# Altium footprint library TXdispatcherBoard.PcbLib: 8 footprints
Each footprint in its own frame and in the unit in brackets; x right, y up, seen from the top. Pads: shape width x height; smd on the part's side, far side on the other; paste and mask are expansions set on the pad; w line width, h text height; cw(c..) or ccw(c..) is an arc to the next point about the centre after c.
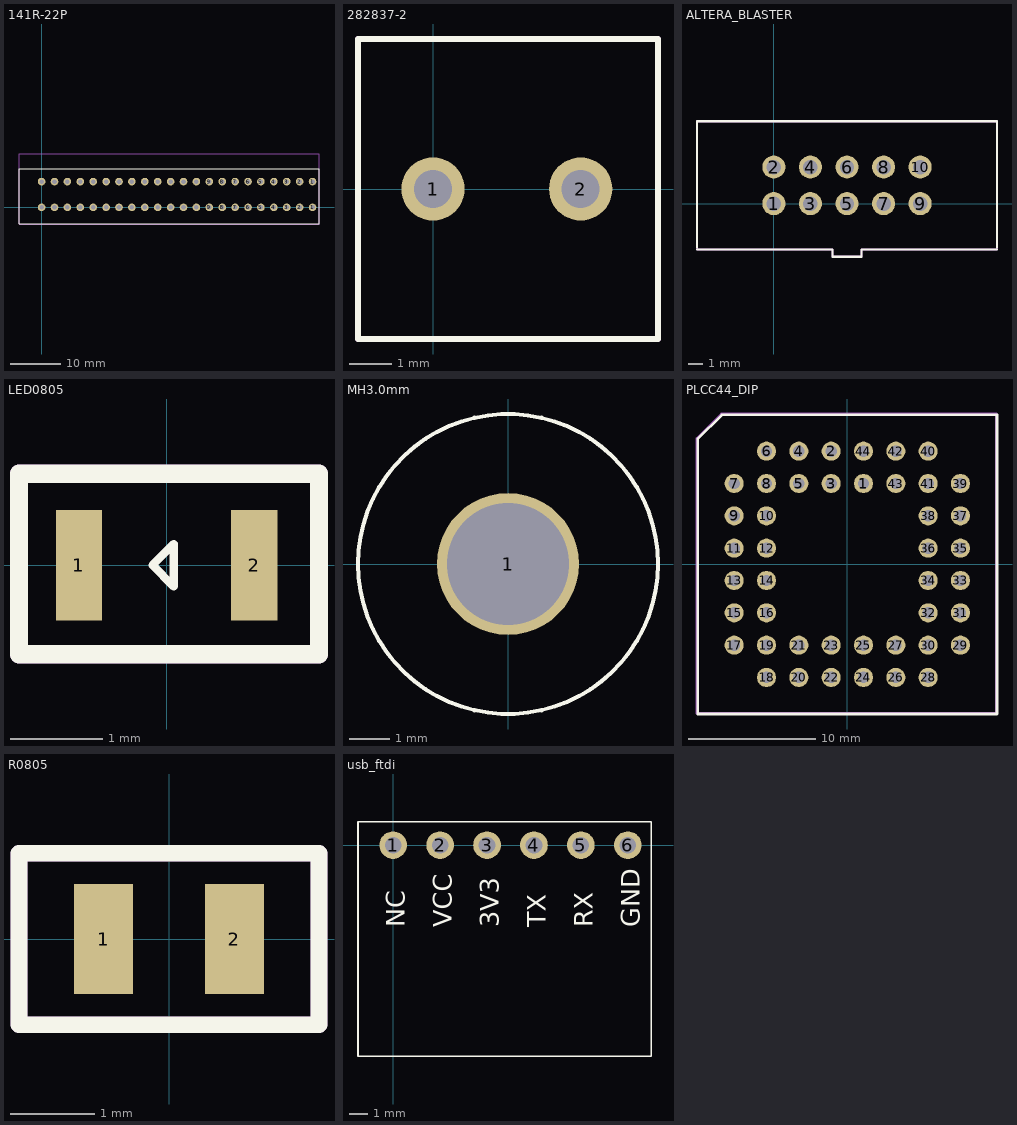
[diagram p0: the footprints below, top view; thin cyan lines are the x and y axes]

## 141R-22P [mm]
pads (44):
  round 1.5 hole 0.9: 1(53.34,0) 1(53.34,5.08) 2(50.8,0) 2(50.8,5.08) 3(48.26,0) 3(48.26,5.08) 4(45.72,0) 4(45.72,5.08) 5(43.18,0) 5(43.18,5.08) 6(40.64,0) 6(40.64,5.08) 7(38.1,0) 7(38.1,5.08) 8(35.56,0) 8(35.56,5.08) 9(33.02,0) 9(33.02,5.08) 10(30.48,0) 10(30.48,5.08) 11(27.94,0) 11(27.94,5.08) 12(25.4,0) 12(25.4,5.08) 13(22.86,0) 13(22.86,5.08) 14(20.32,0) 14(20.32,5.08) 15(17.78,0) 15(17.78,5.08) 16(15.24,0) 16(15.24,5.08) 17(12.7,0) 17(12.7,5.08) 18(10.16,0) 18(10.16,5.08) 19(7.62,0) 19(7.62,5.08) 20(5.08,0) 20(5.08,5.08) 21(2.54,0) 21(2.54,5.08) 22(0,0) 22(0,5.08)
Top Overlay:
  lines w0.09: -4.445,-3.175 -4.445,7.62 54.61,7.62 54.61,-3.175 -4.445,-3.175
Assembly:
  circle w0.2: c53.34,5.08 r0.359
  lines w0.09: -4.445,-3.302 54.61,-3.302 54.61,10.541 -4.445,10.541 -4.445,-3.302
  text "'.Designator'" at 22.098,2.286 h0.7
3D body "User Library-DG141R-5-2_54.STEP": height 12.61, standoff -3.49, extent 33.882,-2.99 49.022,10.61
3D body "User Library-DG141R-5-2_54.STEP": height 12.61, standoff -3.49, extent 21.182,-2.99 36.322,10.61
3D body "User Library-DG141R-5-2_54.STEP": height 12.61, standoff -3.49, extent -4.218,-2.99 10.922,10.61
3D body "User Library-DG141R-2-2_54.STEP": height 12.61, standoff -3.49, extent 46.532,-2.997 54.052,10.603
3D body "User Library-DG141R-5-2_54.STEP": height 12.61, standoff -3.49, extent 8.482,-2.99 23.622,10.61
3D body: height 0.25, standoff -16.1, extent 33.882,-5.08 33.882,-5.08

## 282837-2 [mm]
pads (2):
  round 1.5 hole 0.9: 1(0,0) 2(3.5,0)
Top Overlay:
  lines w0.152: -1.778,-3.556 5.334,-3.556 5.334,3.556 -1.778,3.556 -1.778,-3.556
Assembly:
  circle w0.2: c0,0 r0.359
  lines w0.152: -1.778,-3.556 -1.778,3.556 5.334,3.556 5.334,-3.556 -1.778,-3.556
  text "'.Designator'" at 1.27,-0.254 h0.7
3D body "User Library-dinkle-ED350V-02P.STEP": height 9.2, standoff -2.5, extent -1.722,-3.371 5.278,3.429

## ALTERA_BLASTER [mm]
pads (10):
  round 1.6 hole 1: 1(0,0) 2(0,2.54) 3(2.54,0) 4(2.54,2.54) 5(5.08,0) 6(5.08,2.54) 7(7.62,0) 8(7.62,2.54) 9(10.16,0) 10(10.16,2.54)
Top Overlay:
  lines w0.152: -5.334,-3.175 4.064,-3.175 4.064,-3.683 6.096,-3.683 6.096,-3.175 15.494,-3.175 ; -5.334,-3.048 -5.334,5.715 15.494,5.715 15.494,-3.048
Assembly:
  circle w0.2: c0,0 r0.18
  lines w0.152: -5.334,-3.175 4.064,-3.175 4.064,-3.683 6.096,-3.683 6.096,-3.175 15.494,-3.175 15.494,5.715 -5.334,5.715 -5.334,-3.175
  text "'.Designator'" at 0.18,0 h1
3D body "User Library-BoxHeader_2R5W_254P_00D.STEP": height 9.11, standoff -3.09, extent -5.207,-3.13 15.393,5.67

## LED0805 [mm]
pads (2):
  rect 0.5x1.2 smd: 1(-0.95,0) 2(0.95,0)
Top Overlay:
  lines w0.09: -0.152,0 0.076,-0.229 0.076,0.229 ; -0.152,0 0.076,0.229 ; -0.152,0 0.076,0.229
  lines w0.2: -1.6,-0.965 1.651,-0.965 1.651,0.991 -1.6,0.991 -1.6,-0.965
Assembly:
  lines w0.2: -1.6,-0.965 1.651,-0.965 1.651,0.991 -1.6,0.991 -1.6,-0.965
  text "'.Designator'" at -1.092,-0.406 h0.7
3D body "led_0805.step": height 1.1, standoff 0, extent -1.01,-0.625 1.01,0.625

## MH3.0mm [mm] "MHNP 3.2mm"
pads (1):
  round 3.5 hole 3 unplated mask+0.05: 1(0,0)
Top Overlay:
  circle w0.1: c0,0 r3.7

## PLCC44_DIP [mm]
pads (44):
  round 1.5 hole 0.9: 1(1.27,6.35) 2(-1.27,8.89) 3(-1.27,6.35) 4(-3.81,8.89) 5(-3.81,6.35) 6(-6.35,8.89) 7(-8.89,6.35) 8(-6.35,6.35) 9(-8.89,3.81) 10(-6.35,3.81) 11(-8.89,1.27) 12(-6.35,1.27) 13(-8.89,-1.27) 14(-6.35,-1.27) 15(-8.89,-3.81) 16(-6.35,-3.81) 17(-8.89,-6.35) 18(-6.35,-8.89) 19(-6.35,-6.35) 20(-3.81,-8.89) 21(-3.81,-6.35) 22(-1.27,-8.89) 23(-1.27,-6.35) 24(1.27,-8.89) 25(1.27,-6.35) 26(3.81,-8.89) 27(3.81,-6.35) 28(6.35,-8.89) 29(8.89,-6.35) 30(6.35,-6.35) 31(8.89,-3.81) 32(6.35,-3.81) 33(8.89,-1.27) 34(6.35,-1.27) 35(8.89,1.27) 36(6.35,1.27) 37(8.89,3.81) 38(6.35,3.81) 39(8.89,6.35) 40(6.35,8.89) 41(6.35,6.35) 42(3.81,8.89) 43(3.81,6.35) 44(1.27,8.89)
Top Overlay:
  lines w0.2: -11.76,-11.76 11.76,-11.76 11.76,11.735 -9.855,11.735 -11.76,9.83 -11.76,-11.76
Assembly:
  lines w0.2: -11.811,-11.684 -11.811,9.906 -9.906,11.811 11.684,11.811 11.684,-11.684 -11.811,-11.684
  text "'.Designator'" at -3.81,-0.889 h1
3D body: height 9, standoff 4, extent -3.75,-3.75 3.75,3.75
3D body "plc44dip.stp": height 8.56, standoff -3.19, extent -11.59,-11.59 11.59,11.59
3D body "PLCC44.step": height 9, standoff 4.4, extent -8.65,-8.65 8.65,8.65

## R0805 [mm]
pads (2):
  rect 0.7x1.3 smd mask+0.02: 1(-0.775,0) 2(0.775,0)
Top Overlay:
  lines w0.2: -1.778,-1.016 1.778,-1.016 1.778,1.016 -1.778,1.016 -1.778,-1.016
Assembly:
  lines w0.2: -1.778,-1.016 -1.778,1.016 1.778,1.016 1.778,-1.016 -1.778,-1.016
  text "'.Designator'" at -0.864,-0.33 h0.7
3D body "RES_2013-0805.step": height 0.77, standoff 0.01, extent -1.15,-0.675 1.15,0.675

## usb_ftdi [mm]
pads (6):
  round 1.5 hole 0.9: 1(0,0) 2(2.54,0) 3(5.08,0) 4(7.62,0) 5(10.16,0) 6(12.7,0)
Top Overlay:
  lines w0.09: -1.905,-11.43 -1.905,1.27 13.97,1.27 13.97,-11.43 -1.905,-11.43
  text "GND" at 13.335,-4.445 h1
  text "RX" at 10.795,-4.445 h1
  text "TX" at 8.255,-4.445 h1
  text "3V3" at 5.715,-4.445 h1
  text "VCC" at 3.175,-4.445 h1
  text "NC" at 0.635,-4.445 h1